# Altium footprint library PC_0603.PcbLib: 1 footprints
Each footprint in its own frame and in the unit in brackets; x right, y up, seen from the top. Pads: shape width x height; smd on the part's side, far side on the other; paste and mask are expansions set on the pad; w line width, h text height; cw(c..) or ccw(c..) is an arc to the next point about the centre after c.
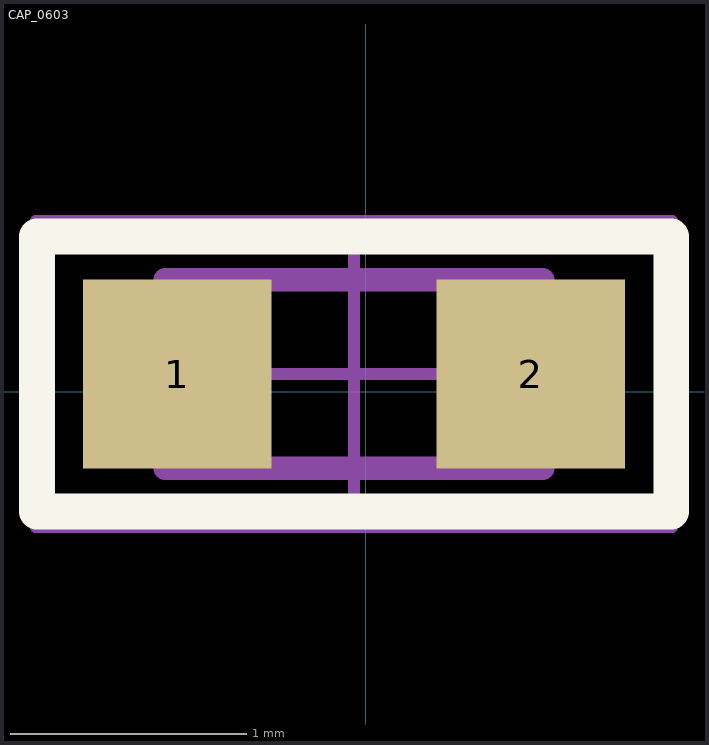
[diagram p0: the footprint, top view; thin cyan lines are the x and y axes]

## CAP_0603 [mm]
pads (2):
  rect 0.8x0.8 smd: 1(-0.801,0.076) 2(0.699,0.076)
Top Overlay:
  lines w0.152: -1.395,-0.508 -1.395,0.66 -1.219,0.66 1.295,0.66 1.295,-0.508 -1.395,-0.508
Mechanical 13:
  lines w0.1: -0.851,-0.324 0.749,-0.324 0.749,0.476 -0.851,0.476 -0.851,-0.324
Mechanical 15:
  lines w0.05: -0.551,0.076 0.449,0.076 ; -0.051,-0.424 -0.051,0.576 ; -1.401,-0.574 1.299,-0.574 1.299,0.726 -1.401,0.726 -1.401,-0.574
3D body "1.6x0.8x0.8x0.4.stp": height 0.8, standoff 0, extent -0.851,-0.324 0.749,0.476